# Altium schematic symbol library Transceiver.SchLib: 5 symbols
Pins are listed as number, name and electrical type; pins without a type are passive.

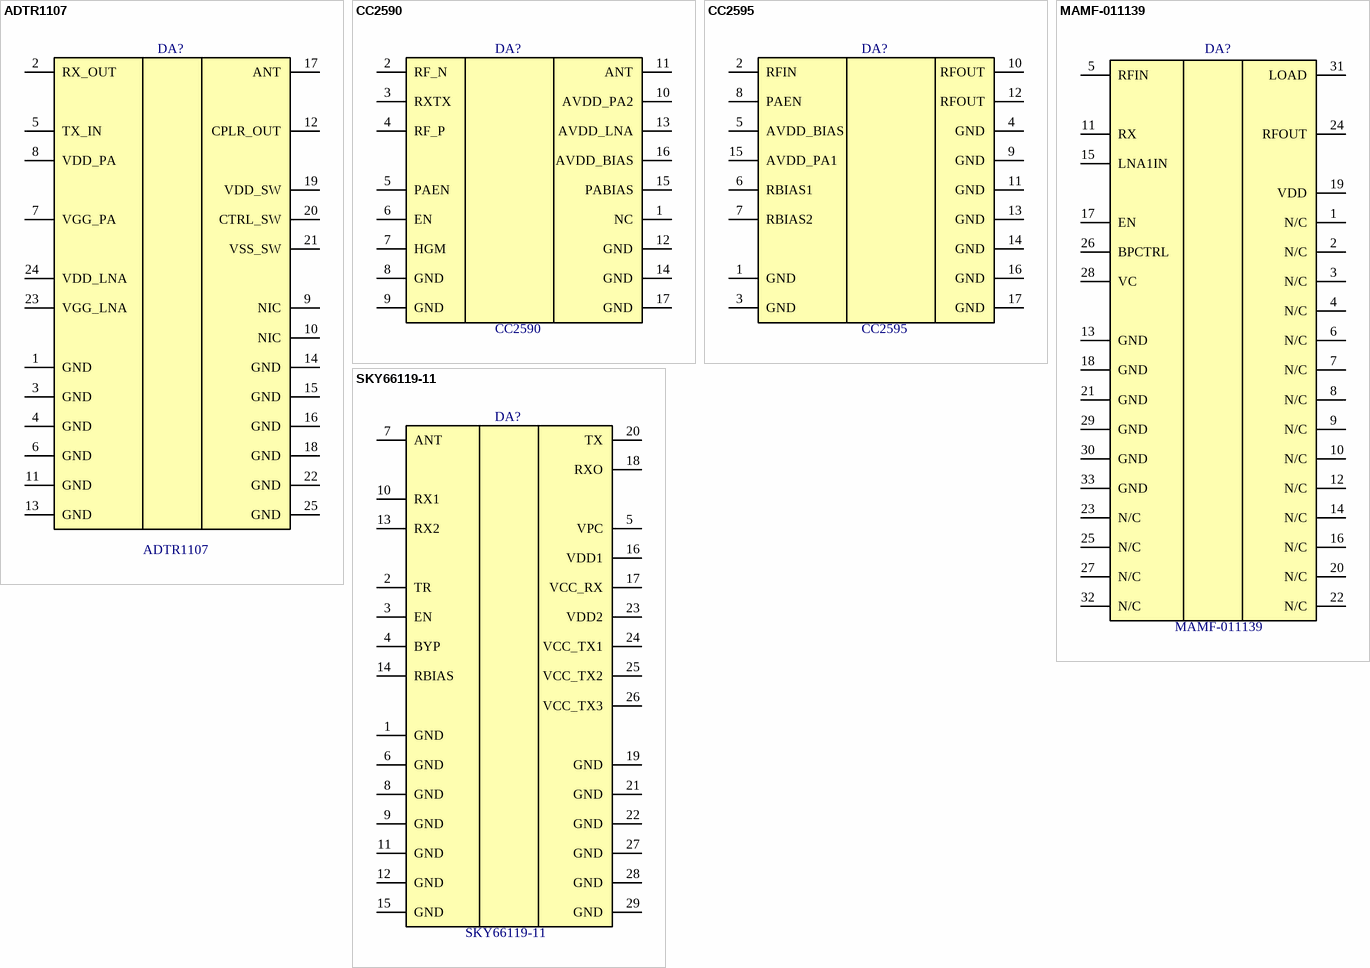
[diagram p0: symbols ADTR1107 to SKY66119-11]

## ADTR1107
designator DA?
6 GHz to 18 GHz, Front-End IC; Manufacturer: Analog Devices; PartNumber: ADTR1107; ComponentLink1Description: Product Page; ComponentLink1URL: https://www.analog.com/en/products/adtr1107.html; ComponentLink2Description: DataSheet; ComponentLink2URL: https://www.analog.com/media/en/technical-documentation/data-sheets/ADTR1107.pdf
footprint QFN65P500X500X113_HS-25N (QFN, 24-Leads, Body 5.00x5.00mm, Pitch 0.65mm, Thermal Pad 3.30x3.30mm, IPC Medium Density)
pins: 1 GND, 2 RX_OUT, 3 GND, 4 GND, 5 TX_IN, 6 GND, 7 VGG_PA, 8 VDD_PA, 9 NIC, 10 NIC, 11 GND, 12 CPLR_OUT, 13 GND, 14 GND, 15 GND, 16 GND, 17 ANT, 18 GND, 19 VDD_SW, 20 CTRL_SW, 21 VSS_SW, 22 GND, 23 VGG_LNA, 24 VDD_LNA, 25 GND

## CC2590
designator DA?
2.4-GHz RF Front End, 14-dBm output power; Manufacturer: Texas Instruments; PartNumber: CC2590; ComponentLink1Description: Product Page; ComponentLink1URL: https://www.ti.com/product/CC2590; ComponentLink2Description: DataSheet; ComponentLink2URL: https://www.ti.com/lit/gpn/cc2590
footprint QFN17P65_400X400X100L55X30T216N (Quad Flat No-Lead (QFN with Tab), 0.65 mm pitch; square, 4 pin X 4 pin, 4.00 mm L X 4.00 mm W X 1.00 mm H body)
pins: 1 NC, 2 RF_N, 3 RXTX, 4 RF_P, 5 PAEN, 6 EN, 7 HGM, 8 GND, 9 GND, 10 AVDD_PA2, 11 ANT, 12 GND, 13 AVDD_LNA, 14 GND, 15 PABIAS, 16 AVDD_BIAS, 17 GND

## CC2595
designator DA?
2.4-GHz RF FRONT END; Manufacturer: Texas Instruments; PartNumber: CC2595; ComponentLink1Description: Product Page; ComponentLink1URL: https://www.ti.com/product/CC2595; ComponentLink2Description: DataSheet; ComponentLink2URL: https://www.ti.com/lit/gpn/cc2595
footprint QFN17P50_300X300X100L40X24T170N (Quad Flat No-Lead (QFN with Tab), 0.50 mm pitch; square, 4 pin X 4 pin, 3.00 mm L X 3.00 mm W X 1.00 mm H body)
pins: 1 GND, 2 RFIN, 3 GND, 4 GND, 5 AVDD_BIAS, 6 RBIAS1, 7 RBIAS2, 8 PAEN, 9 GND, 10 RFOUT, 11 GND, 12 RFOUT, 13 GND, 14 GND, 15 AVDD_PA1, 16 GND, 17 GND

## MAMF-011139
designator DA?
High Power Switch - LNA Module with Bypass 1.4 - 6.0 GHz; Manufacturer: MACOM; PartNumber: MAMF-011139; ComponentLink1Description: Product Page; ComponentLink1URL: https://www.macom.com/products/product-detail/MAMF-011139; ComponentLink2Description: DataSheet; ComponentLink2URL: https://cdn.macom.com/datasheets/MAMF-011139.pdf
footprint QFN50P500X500X160_HS-33N (QFN, 32-Leads, Body 5.00x5.00mm, Pitch 0.50mm, Thermal Pad 3.48x3.58mm, IPC Medium Density)
pins: 1 N/C, 2 N/C, 3 N/C, 4 N/C, 5 RFIN, 6 N/C, 7 N/C, 8 N/C, 9 N/C, 10 N/C, 11 RX, 12 N/C, 13 GND, 14 N/C, 15 LNA1IN, 16 N/C, 17 EN, 18 GND, 19 VDD, 20 N/C, 21 GND, 22 N/C, 23 N/C, 24 RFOUT, 25 N/C, 26 BPCTRL, 27 N/C, 28 VC, 29 GND, 30 GND, 31 LOAD, 32 N/C, 33 GND

## SKY66119-11
designator DA?
460 MHz Transmit/Receive Front-End Module; Manufacturer: Skyworks; PartNumber: SKY66119-11; ComponentLink1Description: ProductPage; ComponentLink1URL: https://www.skyworksinc.com/en/Products/Front-end-Modules/SKY66119-11; ComponentLink2Description: DataSheet; ComponentLink2URL: https://www.skyworksinc.com/-/media/SkyWorks/Documents/Products/2601-2700/SKY66119_11_203652F.pdf
footprint SKY66119-11 (Skyworks QFN, 28-Leads + 4 Corner GND, Body 6.00x6.00mm, Pitch 0.725mm0.75, Thermal Pad 3.875x3.875mm)
pins: 1 GND, 2 TR, 3 EN, 4 BYP, 5 VPC, 6 GND, 7 ANT, 8 GND, 9 GND, 10 RX1, 11 GND, 12 GND, 13 RX2, 14 RBIAS, 15 GND, 16 VDD1, 17 VCC_RX, 18 RXO, 19 GND, 20 TX, 21 GND, 22 GND, 23 VDD2, 24 VCC_TX1, 25 VCC_TX2, 26 VCC_TX3, 27 GND, 28 GND, 29 GND